# EAGLE library part CH340N (library edrtech_lib)
Check availability <https://pricing.snapeda.com/parts/CH340N/WCH/view-part?ref=eda>
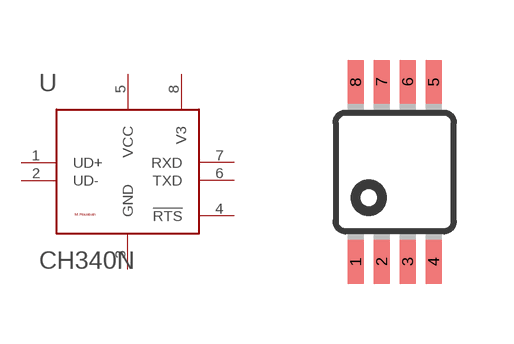
[diagram p40: symbol with the pads of MSOP8; footprint MSOP8]

Designator prefix -

## CH340N (AVAILABILITY: Not in stock; CHECK_PRICES: https://www.snapeda.com/parts/CH340N/WCH/view-part/?ref=eda; DESCRIPTION: USB to Serial Port Chip; MF: WCH; MP: CH340N; PACKAGE: Package; PRICE: None; SNAPEDA_LINK: https://www.snapeda.com/parts/CH340N/WCH/view-part/?ref=snap)  [MSOP8]
1  UD+
2  UD-
3  GND  pwr
4  !RTS  out
5  VCC  pwr
6  TXD  out
7  RXD  in
8  V3  pwr

## Footprint MSOP8 (pad centres in mm)
8M, 8-Lead, 0.118" Wide, Miniature Small Outline Package MSOP 8M-Package doc1097.pdf
smd 0.4 x 1.1: 1 -0.975,-2.25; 2 -0.325,-2.25; 3 0.325,-2.25; 4 0.975,-2.25; 5 0.975,2.25; 6 0.325,2.25; 7 -0.325,2.25; 8 -0.975,2.25